# Altium schematic symbol library SCH - MCU - NUVOTON - NUVOTON NUC123LC2AE1.SchLib: 1 symbol
Pins are listed as number, name and electrical type; pins without a type are passive.

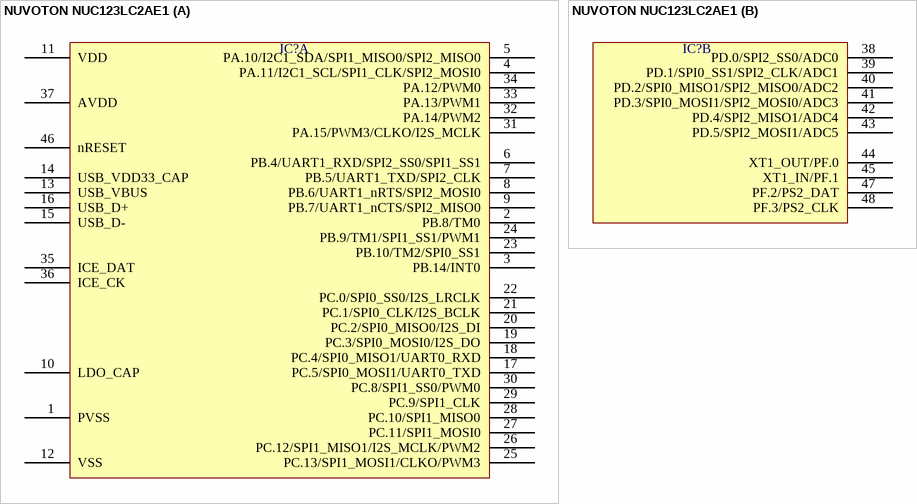
[diagram p0: symbol NUVOTON NUC123LC2AE1]

## NUVOTON NUC123LC2AE1
designator IC?  (value not drawn)
part A pins: 1 PVSS, 2 PB.8/TM0, 3 PB.14/INT0, 4 PA.11/I2C1_SCL/SPI1_CLK/SPI2_MOSI0, 5 PA.10/I2C1_SDA/SPI1_MISO0/SPI2_MISO0, 6 PB.4/UART1_RXD/SPI2_SS0/SPI1_SS1, 7 PB.5/UART1_TXD/SPI2_CLK, 8 PB.6/UART1_nRTS/SPI2_MOSI0, 9 PB.7/UART1_nCTS/SPI2_MISO0, 10 LDO_CAP, 11 VDD, 12 VSS, 13 USB_VBUS, 14 USB_VDD33_CAP, 15 USB_D-, 16 USB_D+, 17 PC.5/SPI0_MOSI1/UART0_TXD, 18 PC.4/SPI0_MISO1/UART0_RXD, 19 PC.3/SPI0_MOSI0/I2S_DO, 20 PC.2/SPI0_MISO0/I2S_DI, 21 PC.1/SPI0_CLK/I2S_BCLK, 22 PC.0/SPI0_SS0/I2S_LRCLK, 23 PB.10/TM2/SPI0_SS1, 24 PB.9/TM1/SPI1_SS1/PWM1, 25 PC.13/SPI1_MOSI1/CLKO/PWM3, 26 PC.12/SPI1_MISO1/I2S_MCLK/PWM2, 27 PC.11/SPI1_MOSI0, 28 PC.10/SPI1_MISO0, 29 PC.9/SPI1_CLK, 30 PC.8/SPI1_SS0/PWM0, 31 PA.15/PWM3/CLKO/I2S_MCLK, 32 PA.14/PWM2, 33 PA.13/PWM1, 34 PA.12/PWM0, 35 ICE_DAT, 36 ICE_CK, 37 AVDD, 46 nRESET
part B pins: 38 PD.0/SPI2_SS0/ADC0, 39 PD.1/SPI0_SS1/SPI2_CLK/ADC1, 40 PD.2/SPI0_MISO1/SPI2_MISO0/ADC2, 41 PD.3/SPI0_MOSI1/SPI2_MOSI0/ADC3, 42 PD.4/SPI2_MISO1/ADC4, 43 PD.5/SPI2_MOSI1/ADC5, 44 XT1_OUT/PF.0, 45 XT1_IN/PF.1, 47 PF.2/PS2_DAT, 48 PF.3/PS2_CLK